# EAGLE library part SD-SLOT (library sd-slot)
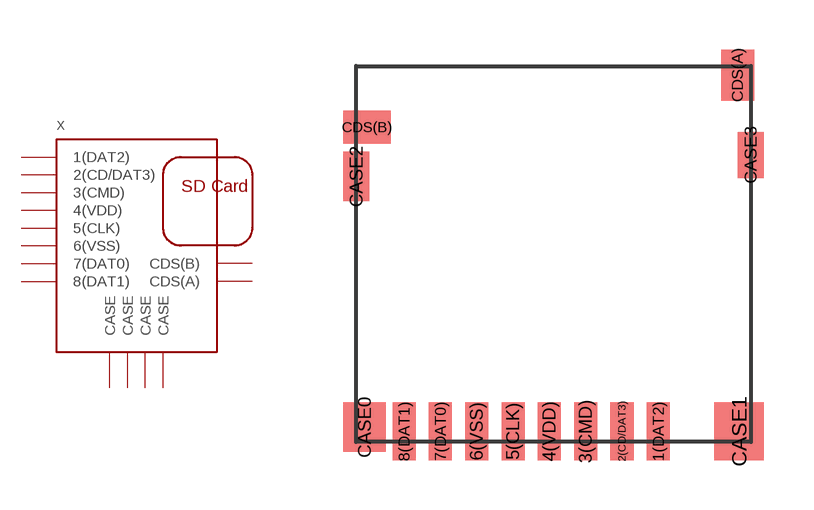
[diagram p0: symbol with the pads of DM3D-SF; footprint DM3D-SF]

Designator prefix X

## SD-SLOT-DM3D-SF  [DM3D-SF]
1(DAT2)  1(DAT2)
2(CD/DAT3)  2(CD/DAT3)
3(CMD)  3(CMD)
4(VDD)  4(VDD)
5(CLK)  5(CLK)
6(VSS)  6(VSS)
7(DAT0)  7(DAT0)
8(DAT1)  8(DAT1)
CASE0  CASE
CASE1  CASE
CASE2  CASE
CASE3  CASE
CDS(A)  CDS(A)
CDS(B)  CDS(B)

## Footprint DM3D-SF (pad centres in mm)
smd 0.7 x 1.75: 1(DAT2) 7.7,-0.875; 2(CD/DAT3) 6.6,-0.875; 3(CMD) 5.5,-0.875; 4(VDD) 4.4,-0.875; 5(CLK) 3.3,-0.875; 6(VSS) 2.2,-0.875; 7(DAT0) 1.1,-0.875; 8(DAT1) 0,-0.875
smd 1.3 x 1.5: CASE0 -1.2,-0.75
smd 1.5 x 1.75: CASE1 10.15,-0.875
smd 0.8 x 1.5: CASE2 -1.45,6.85
smd 0.8 x 1.4: CASE3 10.5,7.5
smd 1 x 1.55: CDS(A) 10.1,9.925
smd 1.45 x 1: CDS(B) -1.125,8.35